# EAGLE library part ADG812YRUZ-REEL7 (library ruark2)
4 Circuit IC Switch 1:1 650mOhm 16-TSSOP SPST
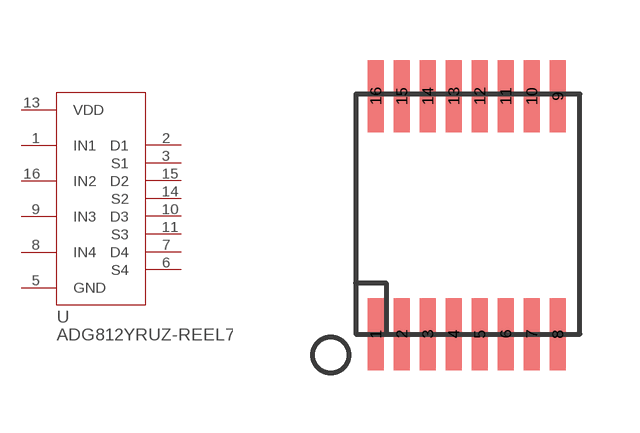
[diagram p159: symbol with the pads of TSSOP16; footprint TSSOP16]

Designator prefix U

## ADG812YRUZ-REEL7 (PARTNO: ADG812YRUZ-REEL7CT-ND)  [TSSOP16]
1  IN1
2  D1
3  S1
5  GND
6  S4
7  D4
8  IN4
9  IN3
10  D3
11  S3
13  VDD
14  S2
15  D2
16  IN2

## Footprint TSSOP16 (pad centres in mm)
smd 0.4 x 1.8: 1 -2.275,-2.975; 2 -1.625,-2.975; 3 -0.975,-2.975; 4 -0.325,-2.975; 5 0.325,-2.975; 6 0.975,-2.975; 7 1.625,-2.975; 8 2.275,-2.975; 9 2.275,2.975; 10 1.625,2.975; 11 0.975,2.975; 12 0.325,2.975; 13 -0.325,2.975; 14 -0.975,2.975; 15 -1.625,2.975; 16 -2.275,2.975